# Altium footprint library IFX-PG-TSON-8-5-V.PcbLib: 1 footprints
Each footprint in its own frame and in the unit in brackets; x right, y up, seen from the top. Pads: shape width x height; smd on the part's side, far side on the other; paste and mask are expansions set on the pad; w line width, h text height; cw(c..) or ccw(c..) is an arc to the next point about the centre after c.
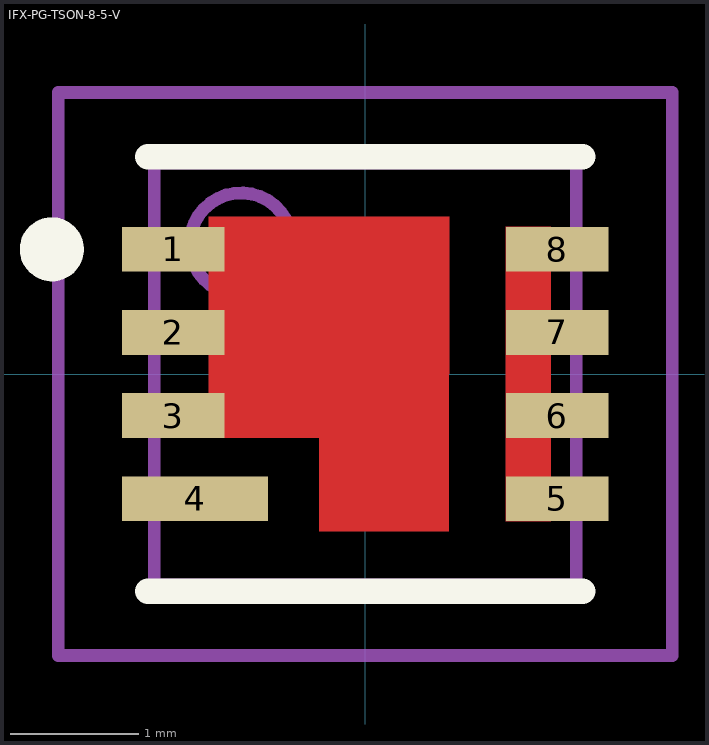
[diagram p0: the footprint, top view; thin cyan lines are the x and y axes]

## IFX-PG-TSON-8-5-V [mm] "PG-TSON-8-5, 0.65 mm pitch, 8 pin, 3.30mm L X 3.30mm W X 1.10mm H body"
height 1.1
pads (8):
  rect 0.8x0.35 smd paste-0.175 mask+0: 1(-1.5,0.975) 2(-1.5,0.325) 3(-1.5,-0.325) 5(1.5,-0.975) 6(1.5,-0.325) 7(1.5,0.325) 8(1.5,0.975)
  rect 1.14x0.35 smd paste-0.175 mask+0: 4(-1.33,-0.975)
Top Layer:
  region: 0.655,-1.23 0.655,1.23 -1.225,1.23 -1.225,-0.5 -0.36,-0.5 -0.36,-1.23
  region: 1.1,1.15 1.1,-1.15 1.45,-1.15 1.45,1.15
Top Overlay:
  circle w0.25: c-2.451,0.975 r0.125
  lines w0.2: -1.7,-1.7 1.7,-1.7 ; -1.7,1.7 1.7,1.7
Top Paste:
  region: 1.345,-0.475 1.345,0.475 1.125,0.475 1.125,-0.475
  region: -1.775,-1.125 -1.125,-1.125 -1.125,-0.825 -1.775,-0.825
  region: -0.835,-0.228 -0.835,0.972 -1.185,0.972 -1.185,-0.228
  region: -0.355,-0.228 -0.355,0.972 -0.705,0.972 -0.705,-0.228
  region: -0.225,0.065 -0.225,1.065 0.125,1.065 0.125,0.065
  region: -0.225,-0.065 -0.225,-1.065 0.125,-1.065 0.125,-0.065
  region: 0.605,-0.065 0.605,-1.065 0.255,-1.065 0.255,-0.065
  region: 0.605,0.065 0.605,1.065 0.255,1.065 0.255,0.065
  region: -1.875,0.475 -1.875,0.175 -1.335,0.175 -1.335,0.475
  region: -1.875,1.125 -1.875,0.825 -1.335,0.825 -1.335,1.125
  region: 1.875,1.125 1.875,0.825 1.475,0.825 1.475,1.125
  region: 1.875,0.475 1.875,0.175 1.475,0.175 1.475,0.475
  region: 1.875,-0.825 1.875,-1.125 1.475,-1.125 1.475,-0.825
  region: 1.875,-0.175 1.875,-0.475 1.475,-0.475 1.475,-0.175
  region: -1.875,-0.175 -1.875,-0.475 -1.335,-0.475 -1.335,-0.175
M3 (ASY_Text_Top):
  text ".DESIGNATOR" at -3.643,-0.385 h1.2
M13 (CMP_Body_OTL_Top):
  circle w0.1: c-0.971,1.016 r0.4
  lines w0.1: -1.65,-1.65 -1.65,1.65 1.65,1.65 1.65,-1.65 -1.65,-1.65
M15 (CMP_Courtyard_Top):
  lines w0.1: -0.5,0 0.5,0 ; 0,-0.5 0,0.5 ; -2.4,-2.2 -2.4,2.2 2.4,2.2 2.4,-2.2 -2.4,-2.2
3D body "PG-TSON-8-5_Z8B00207975_V01_3D.stp": height 1.11, standoff 0, extent -1.65,-1.65 1.65,1.65